# EAGLE library part TPS73733 (library lstolcman_thesis)
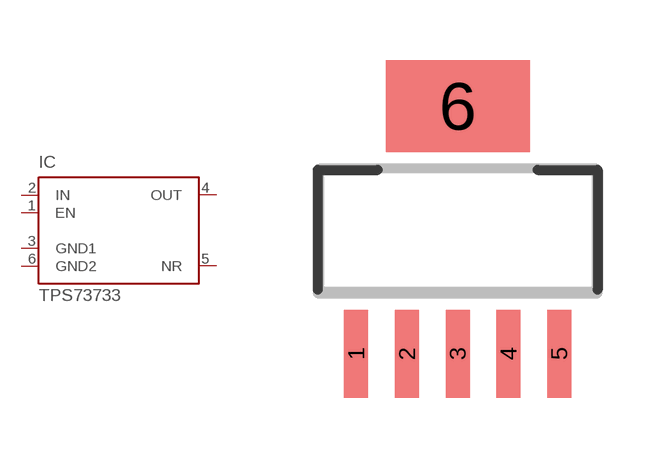
[diagram p5: symbol with the pads of SOT223-6; footprint SOT223-6]

Designator prefix IC

## TPS73733  [SOT223-6]
1  EN
2  IN
3  GND1  in
4  OUT
5  NR
6  GND2

## Footprint SOT223-6 (pad centres in mm)
smd 0.6 x 2.2: 1 -2.54,-3.1; 2 -1.27,-3.1; 3 0,-3.1; 4 1.27,-3.1; 5 2.54,-3.1
smd 3.6 x 2.3: 6 0,3.1